# Altium schematic symbol library PLYSW.Schlib: 1 symbol
Pins are listed as number, name and electrical type; pins without a type are passive.

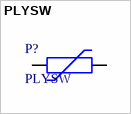
[diagram p0: symbol PLYSW]

## PLYSW
designator P?
PTC RESETTABLE 60V .50A SMD 2920
pins: 1, 2